# Altium integrated library National Semiconductor LDO.IntLib: 2675 symbols (part 64 of 65)
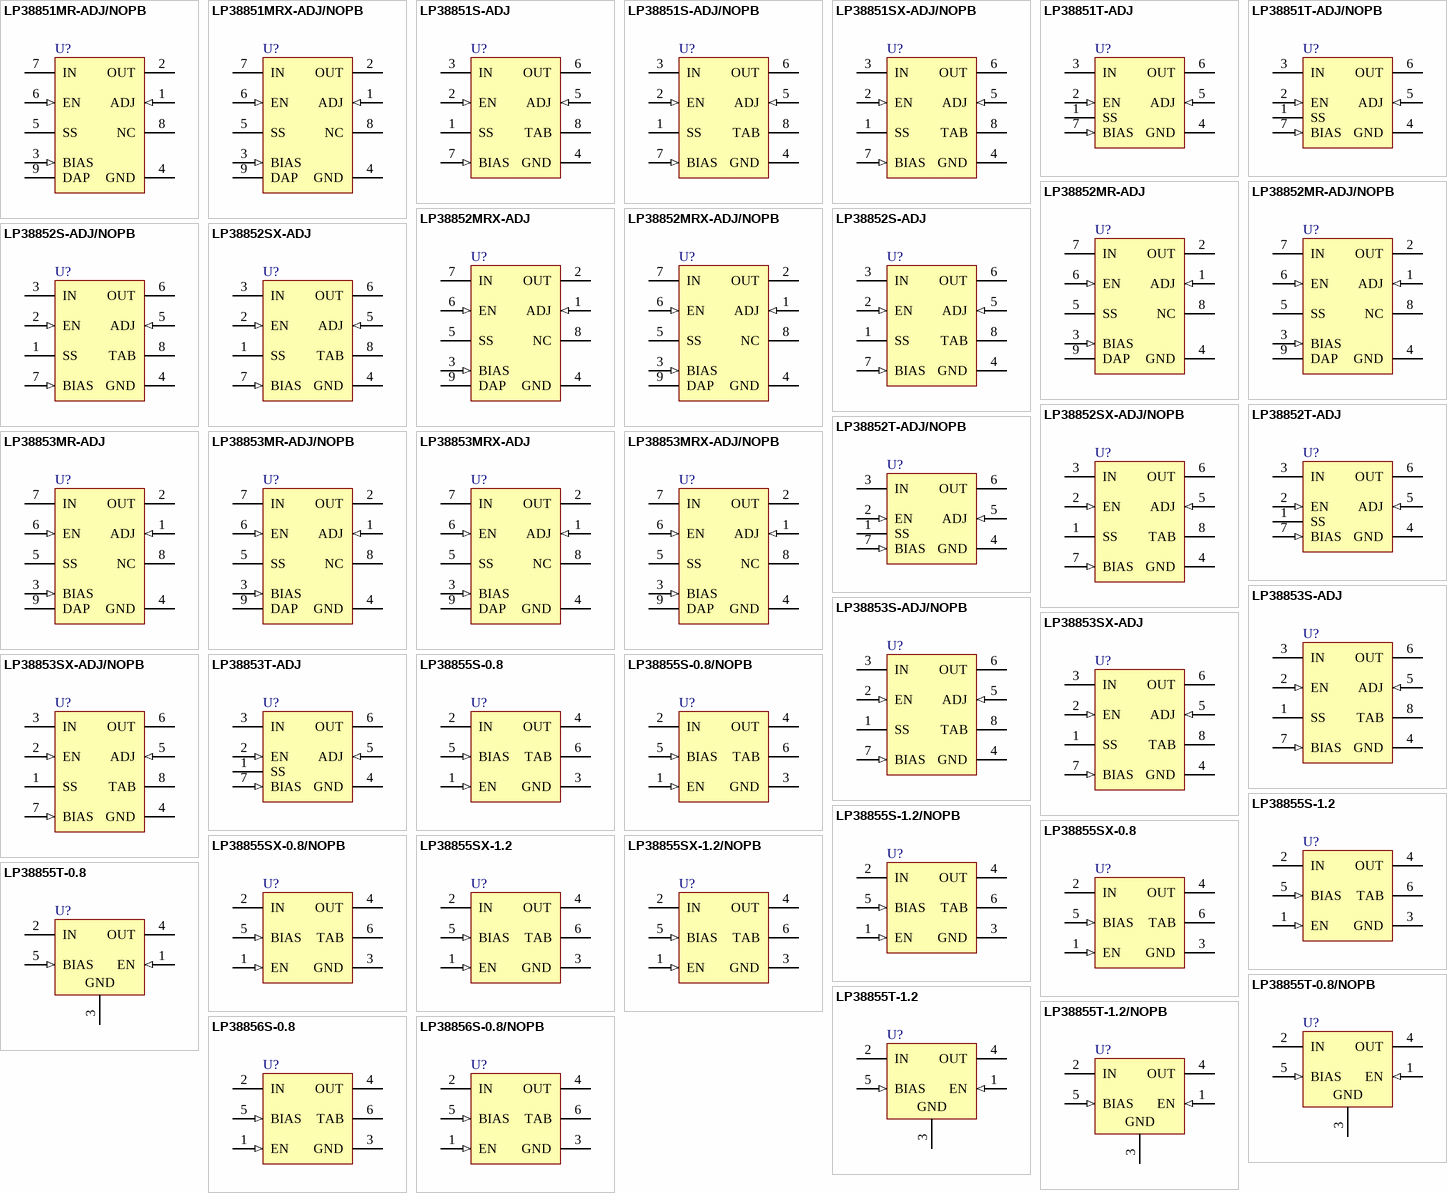
[diagram p130: symbols LP38851MR-ADJ/NOPB to LP38856S-0.8/NOPB]

## LP38855S-0.8/NOPB
designator U?
1.5A Fast-Response High-Accuracy LDO Linear Regulator with Enable, 5-pin TO-263, Pb-Free; PartNumber: LP38855S-0.8/NOPB; Manufacturer: National Semiconductor; PackageTopMarking: NSUZXYTTE#*LP38855S*-0.8; PowerWise: Y; CompType: LDO IC; DatasheetVersion: Dec-2006; PackageVersion: revD, Apr-2005; PackageReference: TS5B; PackageDescription: TO-263, Molded, .400 x .390 x .180in, 5 Lead, .067in Pitch, Surface Mount; RoHS: Y; PinCount: 5; High-Reliability: Y; Code_JEDEC: MO-169-AB; ComponentLink1Description: Manufacturer URL; ComponentLink1URL: http://www.national.com/; ComponentLink2Description: LP38855 Datasheet; ComponentLink2URL: http://www.national.com/ds/LP/LP38855.pdf; ComponentLink3Description: LP38855 Web Page; ComponentLink3URL: http://www.national.com/pf/LP/LP38855.html; ComponentLink4Description: TS5B Package Page; ComponentLink4URL: http://www.national.com/packaging/folders/ts5b.html
footprint TS5B_N (D2-PAK, 6-Leads, Body 8.6x10.2mm, Pitch 1.7mm, Lead Span 14.1mm, IPC Medium Density)
footprint TS5B_L (D2-PAK, 6-Leads, Body 8.6x10.2mm, Pitch 1.7mm, Lead Span 14.1mm, IPC High Density)
footprint TS5B_M (D2-PAK, 6-Leads, Body 8.6x10.2mm, Pitch 1.7mm, Lead Span 14.1mm, IPC Low Density)
pins: 1 EN (in), 2 IN (power), 3 GND (power), 4 OUT (power), 5 BIAS (in), 6 TAB (power)

## LP38855S-1.2
designator U?
1.5A Fast-Response High-Accuracy LDO Linear Regulator with Enable, 5-pin TO-263; PartNumber: LP38855S-1.2; Manufacturer: National Semiconductor; PackageTopMarking: NSUZXYTTE#*LP38855S*-1.2; PowerWise: Y; CompType: LDO IC; DatasheetVersion: Dec-2006; PackageVersion: revD, Apr-2005; PackageReference: TS5B; PackageDescription: TO-263, Molded, .400 x .390 x .180in, 5 Lead, .067in Pitch, Surface Mount; RoHS: N; PinCount: 5; High-Reliability: Y; Code_JEDEC: MO-169-AB; ComponentLink1Description: Manufacturer URL; ComponentLink1URL: http://www.national.com/; ComponentLink2Description: LP38855 Datasheet; ComponentLink2URL: http://www.national.com/ds/LP/LP38855.pdf; ComponentLink3Description: LP38855 Web Page; ComponentLink3URL: http://www.national.com/pf/LP/LP38855.html; ComponentLink4Description: TS5B Package Page; ComponentLink4URL: http://www.national.com/packaging/folders/ts5b.html
footprint TS5B_N (D2-PAK, 6-Leads, Body 8.6x10.2mm, Pitch 1.7mm, Lead Span 14.1mm, IPC Medium Density)
footprint TS5B_L (D2-PAK, 6-Leads, Body 8.6x10.2mm, Pitch 1.7mm, Lead Span 14.1mm, IPC High Density)
footprint TS5B_M (D2-PAK, 6-Leads, Body 8.6x10.2mm, Pitch 1.7mm, Lead Span 14.1mm, IPC Low Density)
pins: 1 EN (in), 2 IN (power), 3 GND (power), 4 OUT (power), 5 BIAS (in), 6 TAB (power)

## LP38855S-1.2/NOPB
designator U?
1.5A Fast-Response High-Accuracy LDO Linear Regulator with Enable, 5-pin TO-263, Pb-Free; PartNumber: LP38855S-1.2/NOPB; Manufacturer: National Semiconductor; PackageTopMarking: NSUZXYTTE#*LP38855S*-1.2; PowerWise: Y; CompType: LDO IC; DatasheetVersion: Dec-2006; PackageVersion: revD, Apr-2005; PackageReference: TS5B; PackageDescription: TO-263, Molded, .400 x .390 x .180in, 5 Lead, .067in Pitch, Surface Mount; RoHS: Y; PinCount: 5; High-Reliability: Y; Code_JEDEC: MO-169-AB; ComponentLink1Description: Manufacturer URL; ComponentLink1URL: http://www.national.com/; ComponentLink2Description: LP38855 Datasheet; ComponentLink2URL: http://www.national.com/ds/LP/LP38855.pdf; ComponentLink3Description: LP38855 Web Page; ComponentLink3URL: http://www.national.com/pf/LP/LP38855.html; ComponentLink4Description: TS5B Package Page; ComponentLink4URL: http://www.national.com/packaging/folders/ts5b.html
footprint TS5B_N (D2-PAK, 6-Leads, Body 8.6x10.2mm, Pitch 1.7mm, Lead Span 14.1mm, IPC Medium Density)
footprint TS5B_L (D2-PAK, 6-Leads, Body 8.6x10.2mm, Pitch 1.7mm, Lead Span 14.1mm, IPC High Density)
footprint TS5B_M (D2-PAK, 6-Leads, Body 8.6x10.2mm, Pitch 1.7mm, Lead Span 14.1mm, IPC Low Density)
pins: 1 EN (in), 2 IN (power), 3 GND (power), 4 OUT (power), 5 BIAS (in), 6 TAB (power)

## LP38855SX-0.8
designator U?
1.5A Fast-Response High-Accuracy LDO Linear Regulator with Enable, 5-pin TO-263; PartNumber: LP38855SX-0.8; Manufacturer: National Semiconductor; PackageTopMarking: NSUZXYTTE#*LP38855S*-0.8; PowerWise: N; CompType: LDO IC; High-Reliability: Y; DatasheetVersion: Dec-2006; PackageVersion: revD, Apr-2005; PackageReference: TS5B; PackageDescription: TO-263, Molded, .400 x .390 x .180in, 5 Lead, .067in Pitch, Surface Mount; RoHS: N; PinCount: 5; Code_JEDEC: MO-169-AB; ComponentLink1Description: Manufacturer URL; ComponentLink1URL: http://www.national.com/; ComponentLink2Description: LP38855 Datasheet; ComponentLink2URL: http://www.national.com/ds/LP/LP38855.pdf; ComponentLink3Description: LP38855 Web Page; ComponentLink3URL: http://www.national.com/pf/LP/LP38855.html; ComponentLink4Description: TS5B Package Page; ComponentLink4URL: http://www.national.com/packaging/folders/ts5b.html
footprint TS5B_N (D2-PAK, 6-Leads, Body 8.6x10.2mm, Pitch 1.7mm, Lead Span 14.1mm, IPC Medium Density)
footprint TS5B_L (D2-PAK, 6-Leads, Body 8.6x10.2mm, Pitch 1.7mm, Lead Span 14.1mm, IPC High Density)
footprint TS5B_M (D2-PAK, 6-Leads, Body 8.6x10.2mm, Pitch 1.7mm, Lead Span 14.1mm, IPC Low Density)
pins: 1 EN (in), 2 IN (power), 3 GND (power), 4 OUT (power), 5 BIAS (in), 6 TAB (power)

## LP38855SX-0.8/NOPB
designator U?
1.5A Fast-Response High-Accuracy LDO Linear Regulator with Enable, 5-pin TO-263, Pb-Free; PartNumber: LP38855SX-0.8/NOPB; Manufacturer: National Semiconductor; PackageTopMarking: NSUZXYTTE#*LP38855S*-0.8; PowerWise: N; CompType: LDO IC; High-Reliability: Y; DatasheetVersion: Dec-2006; PackageVersion: revD, Apr-2005; PackageReference: TS5B; PackageDescription: TO-263, Molded, .400 x .390 x .180in, 5 Lead, .067in Pitch, Surface Mount; RoHS: Y; PinCount: 5; Code_JEDEC: MO-169-AB; ComponentLink1Description: Manufacturer URL; ComponentLink1URL: http://www.national.com/; ComponentLink2Description: LP38855 Datasheet; ComponentLink2URL: http://www.national.com/ds/LP/LP38855.pdf; ComponentLink3Description: LP38855 Web Page; ComponentLink3URL: http://www.national.com/pf/LP/LP38855.html; ComponentLink4Description: TS5B Package Page; ComponentLink4URL: http://www.national.com/packaging/folders/ts5b.html
footprint TS5B_N (D2-PAK, 6-Leads, Body 8.6x10.2mm, Pitch 1.7mm, Lead Span 14.1mm, IPC Medium Density)
footprint TS5B_L (D2-PAK, 6-Leads, Body 8.6x10.2mm, Pitch 1.7mm, Lead Span 14.1mm, IPC High Density)
footprint TS5B_M (D2-PAK, 6-Leads, Body 8.6x10.2mm, Pitch 1.7mm, Lead Span 14.1mm, IPC Low Density)
pins: 1 EN (in), 2 IN (power), 3 GND (power), 4 OUT (power), 5 BIAS (in), 6 TAB (power)

## LP38855SX-1.2
designator U?
1.5A Fast-Response High-Accuracy LDO Linear Regulator with Enable, 5-pin TO-263; PartNumber: LP38855SX-1.2; Manufacturer: National Semiconductor; PackageTopMarking: NSUZXYTTE#*LP38855S*-1.2; PowerWise: Y; CompType: LDO IC; DatasheetVersion: Dec-2006; PackageVersion: revD, Apr-2005; PackageReference: TS5B; PackageDescription: TO-263, Molded, .400 x .390 x .180in, 5 Lead, .067in Pitch, Surface Mount; RoHS: N; PinCount: 5; High-Reliability: Y; Code_JEDEC: MO-169-AB; ComponentLink1Description: Manufacturer URL; ComponentLink1URL: http://www.national.com/; ComponentLink2Description: LP38855 Datasheet; ComponentLink2URL: http://www.national.com/ds/LP/LP38855.pdf; ComponentLink3Description: LP38855 Web Page; ComponentLink3URL: http://www.national.com/pf/LP/LP38855.html; ComponentLink4Description: TS5B Package Page; ComponentLink4URL: http://www.national.com/packaging/folders/ts5b.html
footprint TS5B_N (D2-PAK, 6-Leads, Body 8.6x10.2mm, Pitch 1.7mm, Lead Span 14.1mm, IPC Medium Density)
footprint TS5B_L (D2-PAK, 6-Leads, Body 8.6x10.2mm, Pitch 1.7mm, Lead Span 14.1mm, IPC High Density)
footprint TS5B_M (D2-PAK, 6-Leads, Body 8.6x10.2mm, Pitch 1.7mm, Lead Span 14.1mm, IPC Low Density)
pins: 1 EN (in), 2 IN (power), 3 GND (power), 4 OUT (power), 5 BIAS (in), 6 TAB (power)

## LP38855SX-1.2/NOPB
designator U?
1.5A Fast-Response High-Accuracy LDO Linear Regulator with Enable, 5-pin TO-263, Pb-Free; PartNumber: LP38855SX-1.2/NOPB; Manufacturer: National Semiconductor; PackageTopMarking: NSUZXYTTE#*LP38855S*-1.2; PowerWise: Y; CompType: LDO IC; DatasheetVersion: Dec-2006; PackageVersion: revD, Apr-2005; PackageReference: TS5B; PackageDescription: TO-263, Molded, .400 x .390 x .180in, 5 Lead, .067in Pitch, Surface Mount; RoHS: Y; PinCount: 5; High-Reliability: Y; Code_JEDEC: MO-169-AB; ComponentLink1Description: Manufacturer URL; ComponentLink1URL: http://www.national.com/; ComponentLink2Description: LP38855 Datasheet; ComponentLink2URL: http://www.national.com/ds/LP/LP38855.pdf; ComponentLink3Description: LP38855 Web Page; ComponentLink3URL: http://www.national.com/pf/LP/LP38855.html; ComponentLink4Description: TS5B Package Page; ComponentLink4URL: http://www.national.com/packaging/folders/ts5b.html
footprint TS5B_N (D2-PAK, 6-Leads, Body 8.6x10.2mm, Pitch 1.7mm, Lead Span 14.1mm, IPC Medium Density)
footprint TS5B_L (D2-PAK, 6-Leads, Body 8.6x10.2mm, Pitch 1.7mm, Lead Span 14.1mm, IPC High Density)
footprint TS5B_M (D2-PAK, 6-Leads, Body 8.6x10.2mm, Pitch 1.7mm, Lead Span 14.1mm, IPC Low Density)
pins: 1 EN (in), 2 IN (power), 3 GND (power), 4 OUT (power), 5 BIAS (in), 6 TAB (power)

## LP38855T-0.8
designator U?
1.5A Fast-Response High-Accuracy LDO Linear Regulator with Enable, 5-pin TO-220; PartNumber: LP38855T-0.8; Manufacturer: National Semiconductor; PackageTopMarking: NSUZXYTTE#*LP38855T*-0.8; PowerWise: Y; CompType: LDO IC; DatasheetVersion: Dec-2006; PackageVersion: revA, Oct-1989; PackageReference: T05D; PackageDescription: TO-220, Molded, Stagger Bend, 5 Lead; RoHS: N; PinCount: 5; High-Reliability: Y; ComponentLink1Description: Manufacturer URL; ComponentLink1URL: http://www.national.com/; ComponentLink2Description: LP38855 Datasheet; ComponentLink2URL: http://www.national.com/ds/LP/LP38855.pdf; ComponentLink3Description: LP38855 Web Page; ComponentLink3URL: http://www.national.com/pf/LP/LP38855.html; ComponentLink4Description: T05D Package Page; ComponentLink4URL: http://www.national.com/packaging/folders/t05d.html
footprint T05D (TO, Thru-Hole, Vertical, Heatsink Mounted; 5 Bent Staggered Leads; Body 10.3x8.6x4.6mm, Pitch 1.7 mm)
pins: 1 EN (in), 2 IN (power), 3 GND (power), 4 OUT (power), 5 BIAS (in)

## LP38855T-0.8/NOPB
designator U?
1.5A Fast-Response High-Accuracy LDO Linear Regulator with Enable, 5-pin TO-220, Pb-Free; PartNumber: LP38855T-0.8/NOPB; Manufacturer: National Semiconductor; PackageTopMarking: NSUZXYTTE#*LP38855T*-0.8; PowerWise: Y; CompType: LDO IC; DatasheetVersion: Dec-2006; PackageVersion: revA, Oct-1989; PackageReference: T05D; PackageDescription: TO-220, Molded, Stagger Bend, 5 Lead; RoHS: Y; PinCount: 5; High-Reliability: Y; ComponentLink1Description: Manufacturer URL; ComponentLink1URL: http://www.national.com/; ComponentLink2Description: LP38855 Datasheet; ComponentLink2URL: http://www.national.com/ds/LP/LP38855.pdf; ComponentLink3Description: LP38855 Web Page; ComponentLink3URL: http://www.national.com/pf/LP/LP38855.html; ComponentLink4Description: T05D Package Page; ComponentLink4URL: http://www.national.com/packaging/folders/t05d.html
footprint T05D (TO, Thru-Hole, Vertical, Heatsink Mounted; 5 Bent Staggered Leads; Body 10.3x8.6x4.6mm, Pitch 1.7 mm)
pins: 1 EN (in), 2 IN (power), 3 GND (power), 4 OUT (power), 5 BIAS (in)

## LP38855T-1.2
designator U?
1.5A Fast-Response High-Accuracy LDO Linear Regulator with Enable, 5-pin TO-220; PartNumber: LP38855T-1.2; Manufacturer: National Semiconductor; PackageTopMarking: NSUZXYTTE#*LP38855T*-1.2; PowerWise: Y; CompType: LDO IC; DatasheetVersion: Dec-2006; PackageVersion: revA, Oct-1989; PackageReference: T05D; PackageDescription: TO-220, Molded, Stagger Bend, 5 Lead; RoHS: N; PinCount: 5; High-Reliability: Y; ComponentLink1Description: Manufacturer URL; ComponentLink1URL: http://www.national.com/; ComponentLink2Description: LP38855 Datasheet; ComponentLink2URL: http://www.national.com/ds/LP/LP38855.pdf; ComponentLink3Description: LP38855 Web Page; ComponentLink3URL: http://www.national.com/pf/LP/LP38855.html; ComponentLink4Description: T05D Package Page; ComponentLink4URL: http://www.national.com/packaging/folders/t05d.html
footprint T05D (TO, Thru-Hole, Vertical, Heatsink Mounted; 5 Bent Staggered Leads; Body 10.3x8.6x4.6mm, Pitch 1.7 mm)
pins: 1 EN (in), 2 IN (power), 3 GND (power), 4 OUT (power), 5 BIAS (in)

## LP38855T-1.2/NOPB
designator U?
1.5A Fast-Response High-Accuracy LDO Linear Regulator with Enable, 5-pin TO-220, Pb-Free; PartNumber: LP38855T-1.2/NOPB; Manufacturer: National Semiconductor; PackageTopMarking: NSUZXYTTE#*LP38855T*-1.2; PowerWise: Y; CompType: LDO IC; DatasheetVersion: Dec-2006; PackageVersion: revA, Oct-1989; PackageReference: T05D; PackageDescription: TO-220, Molded, Stagger Bend, 5 Lead; RoHS: Y; PinCount: 5; High-Reliability: Y; ComponentLink1Description: Manufacturer URL; ComponentLink1URL: http://www.national.com/; ComponentLink2Description: LP38855 Datasheet; ComponentLink2URL: http://www.national.com/ds/LP/LP38855.pdf; ComponentLink3Description: LP38855 Web Page; ComponentLink3URL: http://www.national.com/pf/LP/LP38855.html; ComponentLink4Description: T05D Package Page; ComponentLink4URL: http://www.national.com/packaging/folders/t05d.html
footprint T05D (TO, Thru-Hole, Vertical, Heatsink Mounted; 5 Bent Staggered Leads; Body 10.3x8.6x4.6mm, Pitch 1.7 mm)
pins: 1 EN (in), 2 IN (power), 3 GND (power), 4 OUT (power), 5 BIAS (in)

## LP38856S-0.8
designator U?
3A Fast-Response High-Accuracy LDO Linear Regulator with Enable, 5-pin TO-263; PartNumber: LP38856S-0.8; Manufacturer: National Semiconductor; PackageTopMarking: NSUZXYTTE#*LP38856S*0.8; PowerWise: Y; CompType: LDO IC; DatasheetVersion: Dec-2006; PackageVersion: revD, Apr-2005; PackageReference: TS5B; PackageDescription: TO-263, Molded, .400 x .390 x .180in, 5 Lead, .067in Pitch, Surface Mount; RoHS: N; PinCount: 5; High-Reliability: Y; Code_JEDEC: MO-169-AB; ComponentLink1Description: Manufacturer URL; ComponentLink1URL: http://www.national.com/; ComponentLink2Description: LP38856 Datasheet; ComponentLink2URL: http://www.national.com/ds/LP/LP38856.pdf; ComponentLink3Description: LP38856 Web Page; ComponentLink3URL: http://www.national.com/pf/LP/LP38856.html; ComponentLink4Description: TS5B Package Page; ComponentLink4URL: http://www.national.com/packaging/folders/ts5b.html
footprint TS5B_N (D2-PAK, 6-Leads, Body 8.6x10.2mm, Pitch 1.7mm, Lead Span 14.1mm, IPC Medium Density)
footprint TS5B_L (D2-PAK, 6-Leads, Body 8.6x10.2mm, Pitch 1.7mm, Lead Span 14.1mm, IPC High Density)
footprint TS5B_M (D2-PAK, 6-Leads, Body 8.6x10.2mm, Pitch 1.7mm, Lead Span 14.1mm, IPC Low Density)
pins: 1 EN (in), 2 IN (power), 3 GND (power), 4 OUT (power), 5 BIAS (in), 6 TAB (power)

## LP38856S-0.8/NOPB
designator U?
3A Fast-Response High-Accuracy LDO Linear Regulator with Enable, 5-pin TO-263, Pb-Free; PartNumber: LP38856S-0.8/NOPB; Manufacturer: National Semiconductor; PackageTopMarking: NSUZXYTTE#*LP38856S*0.8; PowerWise: Y; CompType: LDO IC; DatasheetVersion: Dec-2006; PackageVersion: revD, Apr-2005; PackageReference: TS5B; PackageDescription: TO-263, Molded, .400 x .390 x .180in, 5 Lead, .067in Pitch, Surface Mount; RoHS: Y; PinCount: 5; High-Reliability: Y; Code_JEDEC: MO-169-AB; ComponentLink1Description: Manufacturer URL; ComponentLink1URL: http://www.national.com/; ComponentLink2Description: LP38856 Datasheet; ComponentLink2URL: http://www.national.com/ds/LP/LP38856.pdf; ComponentLink3Description: LP38856 Web Page; ComponentLink3URL: http://www.national.com/pf/LP/LP38856.html; ComponentLink4Description: TS5B Package Page; ComponentLink4URL: http://www.national.com/packaging/folders/ts5b.html
footprint TS5B_N (D2-PAK, 6-Leads, Body 8.6x10.2mm, Pitch 1.7mm, Lead Span 14.1mm, IPC Medium Density)
footprint TS5B_L (D2-PAK, 6-Leads, Body 8.6x10.2mm, Pitch 1.7mm, Lead Span 14.1mm, IPC High Density)
footprint TS5B_M (D2-PAK, 6-Leads, Body 8.6x10.2mm, Pitch 1.7mm, Lead Span 14.1mm, IPC Low Density)
pins: 1 EN (in), 2 IN (power), 3 GND (power), 4 OUT (power), 5 BIAS (in), 6 TAB (power)

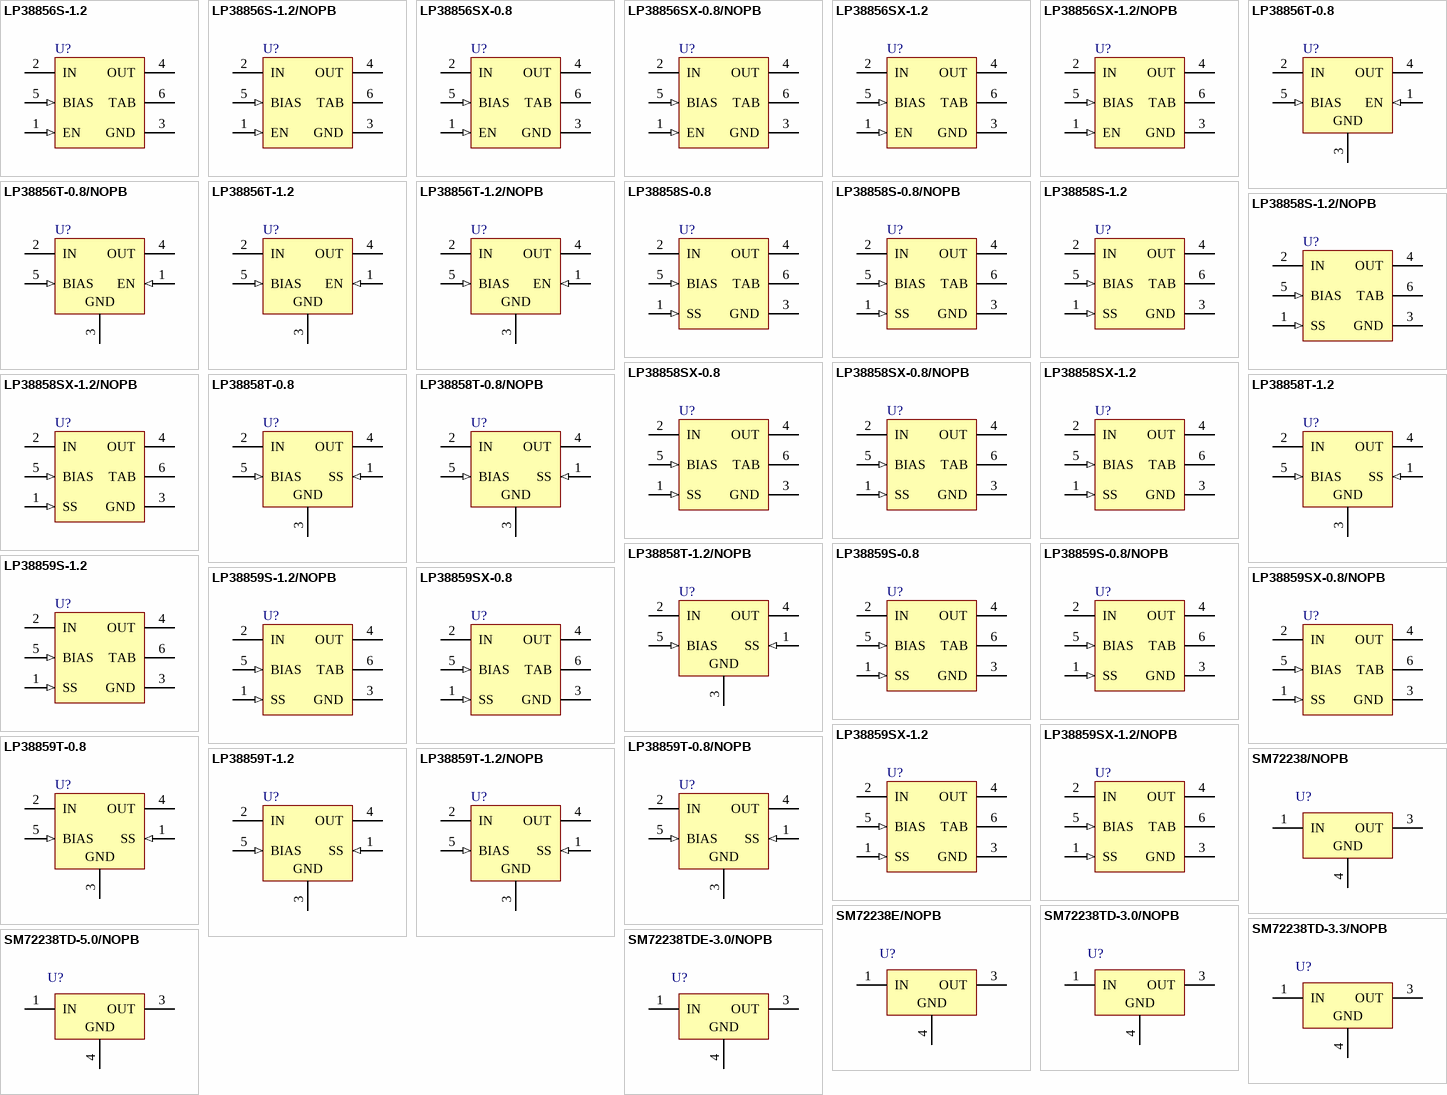
[diagram p66: symbols LP38856S-1.2 to SM72238TDE-3.0/NOPB]

## LP38856S-1.2
designator U?
3A Fast-Response High-Accuracy LDO Linear Regulator with Enable, 5-pin TO-263; PartNumber: LP38856S-1.2; Manufacturer: National Semiconductor; PackageTopMarking: NSUZXYTTE#*LP38856S*1.2; PowerWise: Y; CompType: LDO IC; DatasheetVersion: Dec-2006; PackageVersion: revD, Apr-2005; PackageReference: TS5B; PackageDescription: TO-263, Molded, .400 x .390 x .180in, 5 Lead, .067in Pitch, Surface Mount; RoHS: N; PinCount: 5; High-Reliability: Y; Code_JEDEC: MO-169-AB; ComponentLink1Description: Manufacturer URL; ComponentLink1URL: http://www.national.com/; ComponentLink2Description: LP38856 Datasheet; ComponentLink2URL: http://www.national.com/ds/LP/LP38856.pdf; ComponentLink3Description: LP38856 Web Page; ComponentLink3URL: http://www.national.com/pf/LP/LP38856.html; ComponentLink4Description: TS5B Package Page; ComponentLink4URL: http://www.national.com/packaging/folders/ts5b.html
footprint TS5B_N (D2-PAK, 6-Leads, Body 8.6x10.2mm, Pitch 1.7mm, Lead Span 14.1mm, IPC Medium Density)
footprint TS5B_L (D2-PAK, 6-Leads, Body 8.6x10.2mm, Pitch 1.7mm, Lead Span 14.1mm, IPC High Density)
footprint TS5B_M (D2-PAK, 6-Leads, Body 8.6x10.2mm, Pitch 1.7mm, Lead Span 14.1mm, IPC Low Density)
pins: 1 EN (in), 2 IN (power), 3 GND (power), 4 OUT (power), 5 BIAS (in), 6 TAB (power)

## LP38856S-1.2/NOPB
designator U?
3A Fast-Response High-Accuracy LDO Linear Regulator with Enable, 5-pin TO-263, Pb-Free; PartNumber: LP38856S-1.2/NOPB; Manufacturer: National Semiconductor; PackageTopMarking: NSUZXYTTE#*LP38856S*1.2; PowerWise: Y; CompType: LDO IC; DatasheetVersion: Dec-2006; PackageVersion: revD, Apr-2005; PackageReference: TS5B; PackageDescription: TO-263, Molded, .400 x .390 x .180in, 5 Lead, .067in Pitch, Surface Mount; RoHS: Y; PinCount: 5; High-Reliability: Y; Code_JEDEC: MO-169-AB; ComponentLink1Description: Manufacturer URL; ComponentLink1URL: http://www.national.com/; ComponentLink2Description: LP38856 Datasheet; ComponentLink2URL: http://www.national.com/ds/LP/LP38856.pdf; ComponentLink3Description: LP38856 Web Page; ComponentLink3URL: http://www.national.com/pf/LP/LP38856.html; ComponentLink4Description: TS5B Package Page; ComponentLink4URL: http://www.national.com/packaging/folders/ts5b.html
footprint TS5B_N (D2-PAK, 6-Leads, Body 8.6x10.2mm, Pitch 1.7mm, Lead Span 14.1mm, IPC Medium Density)
footprint TS5B_L (D2-PAK, 6-Leads, Body 8.6x10.2mm, Pitch 1.7mm, Lead Span 14.1mm, IPC High Density)
footprint TS5B_M (D2-PAK, 6-Leads, Body 8.6x10.2mm, Pitch 1.7mm, Lead Span 14.1mm, IPC Low Density)
pins: 1 EN (in), 2 IN (power), 3 GND (power), 4 OUT (power), 5 BIAS (in), 6 TAB (power)

## LP38856SX-0.8
designator U?
3A Fast-Response High-Accuracy LDO Linear Regulator with Enable, 5-pin TO-263; PartNumber: LP38856SX-0.8; Manufacturer: National Semiconductor; PackageTopMarking: NSUZXYTTE#*LP38856S*0.8; PowerWise: Y; CompType: LDO IC; DatasheetVersion: Dec-2006; PackageVersion: revD, Apr-2005; PackageReference: TS5B; PackageDescription: TO-263, Molded, .400 x .390 x .180in, 5 Lead, .067in Pitch, Surface Mount; RoHS: N; PinCount: 5; High-Reliability: Y; Code_JEDEC: MO-169-AB; ComponentLink1Description: Manufacturer URL; ComponentLink1URL: http://www.national.com/; ComponentLink2Description: LP38856 Datasheet; ComponentLink2URL: http://www.national.com/ds/LP/LP38856.pdf; ComponentLink3Description: LP38856 Web Page; ComponentLink3URL: http://www.national.com/pf/LP/LP38856.html; ComponentLink4Description: TS5B Package Page; ComponentLink4URL: http://www.national.com/packaging/folders/ts5b.html
footprint TS5B_N (D2-PAK, 6-Leads, Body 8.6x10.2mm, Pitch 1.7mm, Lead Span 14.1mm, IPC Medium Density)
footprint TS5B_L (D2-PAK, 6-Leads, Body 8.6x10.2mm, Pitch 1.7mm, Lead Span 14.1mm, IPC High Density)
footprint TS5B_M (D2-PAK, 6-Leads, Body 8.6x10.2mm, Pitch 1.7mm, Lead Span 14.1mm, IPC Low Density)
pins: 1 EN (in), 2 IN (power), 3 GND (power), 4 OUT (power), 5 BIAS (in), 6 TAB (power)

## LP38856SX-0.8/NOPB
designator U?
3A Fast-Response High-Accuracy LDO Linear Regulator with Enable, 5-pin TO-263, Pb-Free; PartNumber: LP38856SX-0.8/NOPB; Manufacturer: National Semiconductor; PackageTopMarking: NSUZXYTTE#*LP38856S*0.8; PowerWise: Y; CompType: LDO IC; DatasheetVersion: Dec-2006; PackageVersion: revD, Apr-2005; PackageReference: TS5B; PackageDescription: TO-263, Molded, .400 x .390 x .180in, 5 Lead, .067in Pitch, Surface Mount; RoHS: Y; PinCount: 5; High-Reliability: Y; Code_JEDEC: MO-169-AB; ComponentLink1Description: Manufacturer URL; ComponentLink1URL: http://www.national.com/; ComponentLink2Description: LP38856 Datasheet; ComponentLink2URL: http://www.national.com/ds/LP/LP38856.pdf; ComponentLink3Description: LP38856 Web Page; ComponentLink3URL: http://www.national.com/pf/LP/LP38856.html; ComponentLink4Description: TS5B Package Page; ComponentLink4URL: http://www.national.com/packaging/folders/ts5b.html
footprint TS5B_N (D2-PAK, 6-Leads, Body 8.6x10.2mm, Pitch 1.7mm, Lead Span 14.1mm, IPC Medium Density)
footprint TS5B_L (D2-PAK, 6-Leads, Body 8.6x10.2mm, Pitch 1.7mm, Lead Span 14.1mm, IPC High Density)
footprint TS5B_M (D2-PAK, 6-Leads, Body 8.6x10.2mm, Pitch 1.7mm, Lead Span 14.1mm, IPC Low Density)
pins: 1 EN (in), 2 IN (power), 3 GND (power), 4 OUT (power), 5 BIAS (in), 6 TAB (power)

## LP38856SX-1.2
designator U?
3A Fast-Response High-Accuracy LDO Linear Regulator with Enable, 5-pin TO-263; PartNumber: LP38856SX-1.2; Manufacturer: National Semiconductor; PackageTopMarking: NSUZXYTTE#*LP38856S*1.2; PowerWise: Y; CompType: LDO IC; DatasheetVersion: Dec-2006; PackageVersion: revD, Apr-2005; PackageReference: TS5B; PackageDescription: TO-263, Molded, .400 x .390 x .180in, 5 Lead, .067in Pitch, Surface Mount; RoHS: N; PinCount: 5; High-Reliability: Y; Code_JEDEC: MO-169-AB; ComponentLink1Description: Manufacturer URL; ComponentLink1URL: http://www.national.com/; ComponentLink2Description: LP38856 Datasheet; ComponentLink2URL: http://www.national.com/ds/LP/LP38856.pdf; ComponentLink3Description: LP38856 Web Page; ComponentLink3URL: http://www.national.com/pf/LP/LP38856.html; ComponentLink4Description: TS5B Package Page; ComponentLink4URL: http://www.national.com/packaging/folders/ts5b.html
footprint TS5B_N (D2-PAK, 6-Leads, Body 8.6x10.2mm, Pitch 1.7mm, Lead Span 14.1mm, IPC Medium Density)
footprint TS5B_L (D2-PAK, 6-Leads, Body 8.6x10.2mm, Pitch 1.7mm, Lead Span 14.1mm, IPC High Density)
footprint TS5B_M (D2-PAK, 6-Leads, Body 8.6x10.2mm, Pitch 1.7mm, Lead Span 14.1mm, IPC Low Density)
pins: 1 EN (in), 2 IN (power), 3 GND (power), 4 OUT (power), 5 BIAS (in), 6 TAB (power)

## LP38856SX-1.2/NOPB
designator U?
3A Fast-Response High-Accuracy LDO Linear Regulator with Enable, 5-pin TO-263, Pb-Free; PartNumber: LP38856SX-1.2/NOPB; Manufacturer: National Semiconductor; PackageTopMarking: NSUZXYTTE#*LP38856S*1.2; PowerWise: Y; CompType: LDO IC; DatasheetVersion: Dec-2006; PackageVersion: revD, Apr-2005; PackageReference: TS5B; PackageDescription: TO-263, Molded, .400 x .390 x .180in, 5 Lead, .067in Pitch, Surface Mount; RoHS: Y; PinCount: 5; High-Reliability: Y; Code_JEDEC: MO-169-AB; ComponentLink1Description: Manufacturer URL; ComponentLink1URL: http://www.national.com/; ComponentLink2Description: LP38856 Datasheet; ComponentLink2URL: http://www.national.com/ds/LP/LP38856.pdf; ComponentLink3Description: LP38856 Web Page; ComponentLink3URL: http://www.national.com/pf/LP/LP38856.html; ComponentLink4Description: TS5B Package Page; ComponentLink4URL: http://www.national.com/packaging/folders/ts5b.html
footprint TS5B_N (D2-PAK, 6-Leads, Body 8.6x10.2mm, Pitch 1.7mm, Lead Span 14.1mm, IPC Medium Density)
footprint TS5B_L (D2-PAK, 6-Leads, Body 8.6x10.2mm, Pitch 1.7mm, Lead Span 14.1mm, IPC High Density)
footprint TS5B_M (D2-PAK, 6-Leads, Body 8.6x10.2mm, Pitch 1.7mm, Lead Span 14.1mm, IPC Low Density)
pins: 1 EN (in), 2 IN (power), 3 GND (power), 4 OUT (power), 5 BIAS (in), 6 TAB (power)

## LP38856T-0.8
designator U?
3A Fast-Response High-Accuracy LDO Linear Regulator with Enable, 5-pin TO-220; PartNumber: LP38856T-0.8; Manufacturer: National Semiconductor; PackageTopMarking: NSUZXYTTE#*LP38856T*0.8; PowerWise: Y; CompType: LDO IC; DatasheetVersion: Dec-2006; PackageVersion: revA, Oct-1989; PackageReference: T05D; PackageDescription: TO-220, Molded, Stagger Bend, 5 Lead; RoHS: N; PinCount: 5; High-Reliability: Y; ComponentLink1Description: Manufacturer URL; ComponentLink1URL: http://www.national.com/; ComponentLink2Description: LP38856 Datasheet; ComponentLink2URL: http://www.national.com/ds/LP/LP38856.pdf; ComponentLink3Description: LP38856 Web Page; ComponentLink3URL: http://www.national.com/pf/LP/LP38856.html; ComponentLink4Description: T05D Package Page; ComponentLink4URL: http://www.national.com/packaging/folders/t05d.html
footprint T05D (TO, Thru-Hole, Vertical, Heatsink Mounted; 5 Bent Staggered Leads; Body 10.3x8.6x4.6mm, Pitch 1.7 mm)
pins: 1 EN (in), 2 IN (power), 3 GND (power), 4 OUT (power), 5 BIAS (in)

## LP38856T-0.8/NOPB
designator U?
3A Fast-Response High-Accuracy LDO Linear Regulator with Enable, 5-pin TO-220, Pb-Free; PartNumber: LP38856T-0.8/NOPB; Manufacturer: National Semiconductor; PackageTopMarking: NSUZXYTTE#*LP38856T*0.8; PowerWise: Y; CompType: LDO IC; DatasheetVersion: Dec-2006; PackageVersion: revA, Oct-1989; PackageReference: T05D; PackageDescription: TO-220, Molded, Stagger Bend, 5 Lead; RoHS: Y; PinCount: 5; High-Reliability: Y; ComponentLink1Description: Manufacturer URL; ComponentLink1URL: http://www.national.com/; ComponentLink2Description: LP38856 Datasheet; ComponentLink2URL: http://www.national.com/ds/LP/LP38856.pdf; ComponentLink3Description: LP38856 Web Page; ComponentLink3URL: http://www.national.com/pf/LP/LP38856.html; ComponentLink4Description: T05D Package Page; ComponentLink4URL: http://www.national.com/packaging/folders/t05d.html
footprint T05D (TO, Thru-Hole, Vertical, Heatsink Mounted; 5 Bent Staggered Leads; Body 10.3x8.6x4.6mm, Pitch 1.7 mm)
pins: 1 EN (in), 2 IN (power), 3 GND (power), 4 OUT (power), 5 BIAS (in)

## LP38856T-1.2
designator U?
3A Fast-Response High-Accuracy LDO Linear Regulator with Enable, 5-pin TO-220; PartNumber: LP38856T-1.2; Manufacturer: National Semiconductor; PackageTopMarking: NSUZXYTTE#*LP38856T*1.2; PowerWise: Y; CompType: LDO IC; DatasheetVersion: Dec-2006; PackageVersion: revA, Oct-1989; PackageReference: T05D; PackageDescription: TO-220, Molded, Stagger Bend, 5 Lead; RoHS: N; PinCount: 5; High-Reliability: Y; ComponentLink1Description: Manufacturer URL; ComponentLink1URL: http://www.national.com/; ComponentLink2Description: LP38856 Datasheet; ComponentLink2URL: http://www.national.com/ds/LP/LP38856.pdf; ComponentLink3Description: LP38856 Web Page; ComponentLink3URL: http://www.national.com/pf/LP/LP38856.html; ComponentLink4Description: T05D Package Page; ComponentLink4URL: http://www.national.com/packaging/folders/t05d.html
footprint T05D (TO, Thru-Hole, Vertical, Heatsink Mounted; 5 Bent Staggered Leads; Body 10.3x8.6x4.6mm, Pitch 1.7 mm)
pins: 1 EN (in), 2 IN (power), 3 GND (power), 4 OUT (power), 5 BIAS (in)

## LP38856T-1.2/NOPB
designator U?
3A Fast-Response High-Accuracy LDO Linear Regulator with Enable, 5-pin TO-220, Pb-Free; PartNumber: LP38856T-1.2/NOPB; Manufacturer: National Semiconductor; PackageTopMarking: NSUZXYTTE#*LP38856T*1.2; PowerWise: Y; CompType: LDO IC; DatasheetVersion: Dec-2006; PackageVersion: revA, Oct-1989; PackageReference: T05D; PackageDescription: TO-220, Molded, Stagger Bend, 5 Lead; RoHS: Y; PinCount: 5; High-Reliability: Y; ComponentLink1Description: Manufacturer URL; ComponentLink1URL: http://www.national.com/; ComponentLink2Description: LP38856 Datasheet; ComponentLink2URL: http://www.national.com/ds/LP/LP38856.pdf; ComponentLink3Description: LP38856 Web Page; ComponentLink3URL: http://www.national.com/pf/LP/LP38856.html; ComponentLink4Description: T05D Package Page; ComponentLink4URL: http://www.national.com/packaging/folders/t05d.html
footprint T05D (TO, Thru-Hole, Vertical, Heatsink Mounted; 5 Bent Staggered Leads; Body 10.3x8.6x4.6mm, Pitch 1.7 mm)
pins: 1 EN (in), 2 IN (power), 3 GND (power), 4 OUT (power), 5 BIAS (in)

## LP38858S-0.8
designator U?
1.5A Fast-Response High-Accuracy LDO Linear Regulator with Soft-Start, 5-pin TO-263; PartNumber: LP38858S-0.8; Manufacturer: National Semiconductor; PackageTopMarking: NSUZXYTTE#*LP38858S*-0.8; PowerWise: Y; CompType: LDO IC; DatasheetVersion: Nov-2006; PackageVersion: revD, Apr-2005; PackageReference: TS5B; PackageDescription: TO-263, Molded, .400 x .390 x .180in, 5 Lead, .067in Pitch, Surface Mount; RoHS: N; PinCount: 5; High-Reliability: Y; Code_JEDEC: MO-169-AB; ComponentLink1Description: Manufacturer URL; ComponentLink1URL: http://www.national.com/; ComponentLink2Description: LP38858 Datasheet; ComponentLink2URL: http://www.national.com/ds/LP/LP38858.pdf; ComponentLink3Description: LP38858 Web Page; ComponentLink3URL: http://www.national.com/pf/LP/LP38858.html; ComponentLink4Description: TS5B Package Page; ComponentLink4URL: http://www.national.com/packaging/folders/ts5b.html
footprint TS5B_N (D2-PAK, 6-Leads, Body 8.6x10.2mm, Pitch 1.7mm, Lead Span 14.1mm, IPC Medium Density)
footprint TS5B_L (D2-PAK, 6-Leads, Body 8.6x10.2mm, Pitch 1.7mm, Lead Span 14.1mm, IPC High Density)
footprint TS5B_M (D2-PAK, 6-Leads, Body 8.6x10.2mm, Pitch 1.7mm, Lead Span 14.1mm, IPC Low Density)
pins: 1 SS (in), 2 IN (power), 3 GND (power), 4 OUT (power), 5 BIAS (in), 6 TAB (power)

## LP38858S-0.8/NOPB
designator U?
1.5A Fast-Response High-Accuracy LDO Linear Regulator with Soft-Start, 5-pin TO-263, Pb-Free; PartNumber: LP38858S-0.8/NOPB; Manufacturer: National Semiconductor; PackageTopMarking: NSUZXYTTE#*LP38858S*-0.8; PowerWise: Y; CompType: LDO IC; DatasheetVersion: Nov-2006; PackageVersion: revD, Apr-2005; PackageReference: TS5B; PackageDescription: TO-263, Molded, .400 x .390 x .180in, 5 Lead, .067in Pitch, Surface Mount; RoHS: Y; PinCount: 5; High-Reliability: Y; Code_JEDEC: MO-169-AB; ComponentLink1Description: Manufacturer URL; ComponentLink1URL: http://www.national.com/; ComponentLink2Description: LP38858 Datasheet; ComponentLink2URL: http://www.national.com/ds/LP/LP38858.pdf; ComponentLink3Description: LP38858 Web Page; ComponentLink3URL: http://www.national.com/pf/LP/LP38858.html; ComponentLink4Description: TS5B Package Page; ComponentLink4URL: http://www.national.com/packaging/folders/ts5b.html
footprint TS5B_N (D2-PAK, 6-Leads, Body 8.6x10.2mm, Pitch 1.7mm, Lead Span 14.1mm, IPC Medium Density)
footprint TS5B_L (D2-PAK, 6-Leads, Body 8.6x10.2mm, Pitch 1.7mm, Lead Span 14.1mm, IPC High Density)
footprint TS5B_M (D2-PAK, 6-Leads, Body 8.6x10.2mm, Pitch 1.7mm, Lead Span 14.1mm, IPC Low Density)
pins: 1 SS (in), 2 IN (power), 3 GND (power), 4 OUT (power), 5 BIAS (in), 6 TAB (power)

## LP38858S-1.2
designator U?
1.5A Fast-Response High-Accuracy LDO Linear Regulator with Soft-Start, 5-pin TO-263; PartNumber: LP38858S-1.2; Manufacturer: National Semiconductor; PackageTopMarking: NSUZXYTTE#*LP38858S*-1.2; PowerWise: Y; CompType: LDO IC; DatasheetVersion: Nov-2006; PackageVersion: revD, Apr-2005; PackageReference: TS5B; PackageDescription: TO-263, Molded, .400 x .390 x .180in, 5 Lead, .067in Pitch, Surface Mount; RoHS: N; PinCount: 5; High-Reliability: Y; Code_JEDEC: MO-169-AB; ComponentLink1Description: Manufacturer URL; ComponentLink1URL: http://www.national.com/; ComponentLink2Description: LP38858 Datasheet; ComponentLink2URL: http://www.national.com/ds/LP/LP38858.pdf; ComponentLink3Description: LP38858 Web Page; ComponentLink3URL: http://www.national.com/pf/LP/LP38858.html; ComponentLink4Description: TS5B Package Page; ComponentLink4URL: http://www.national.com/packaging/folders/ts5b.html
footprint TS5B_N (D2-PAK, 6-Leads, Body 8.6x10.2mm, Pitch 1.7mm, Lead Span 14.1mm, IPC Medium Density)
footprint TS5B_L (D2-PAK, 6-Leads, Body 8.6x10.2mm, Pitch 1.7mm, Lead Span 14.1mm, IPC High Density)
footprint TS5B_M (D2-PAK, 6-Leads, Body 8.6x10.2mm, Pitch 1.7mm, Lead Span 14.1mm, IPC Low Density)
pins: 1 SS (in), 2 IN (power), 3 GND (power), 4 OUT (power), 5 BIAS (in), 6 TAB (power)

## LP38858S-1.2/NOPB
designator U?
1.5A Fast-Response High-Accuracy LDO Linear Regulator with Soft-Start, 5-pin TO-263, Pb-Free; PartNumber: LP38858S-1.2/NOPB; Manufacturer: National Semiconductor; PackageTopMarking: NSUZXYTTE#*LP38858S*-1.2; PowerWise: Y; CompType: LDO IC; DatasheetVersion: Nov-2006; PackageVersion: revD, Apr-2005; PackageReference: TS5B; PackageDescription: TO-263, Molded, .400 x .390 x .180in, 5 Lead, .067in Pitch, Surface Mount; RoHS: Y; PinCount: 5; High-Reliability: Y; Code_JEDEC: MO-169-AB; ComponentLink1Description: Manufacturer URL; ComponentLink1URL: http://www.national.com/; ComponentLink2Description: LP38858 Datasheet; ComponentLink2URL: http://www.national.com/ds/LP/LP38858.pdf; ComponentLink3Description: LP38858 Web Page; ComponentLink3URL: http://www.national.com/pf/LP/LP38858.html; ComponentLink4Description: TS5B Package Page; ComponentLink4URL: http://www.national.com/packaging/folders/ts5b.html
footprint TS5B_N (D2-PAK, 6-Leads, Body 8.6x10.2mm, Pitch 1.7mm, Lead Span 14.1mm, IPC Medium Density)
footprint TS5B_L (D2-PAK, 6-Leads, Body 8.6x10.2mm, Pitch 1.7mm, Lead Span 14.1mm, IPC High Density)
footprint TS5B_M (D2-PAK, 6-Leads, Body 8.6x10.2mm, Pitch 1.7mm, Lead Span 14.1mm, IPC Low Density)
pins: 1 SS (in), 2 IN (power), 3 GND (power), 4 OUT (power), 5 BIAS (in), 6 TAB (power)

## LP38858SX-0.8
designator U?
1.5A Fast-Response High-Accuracy LDO Linear Regulator with Soft-Start, 5-pin TO-263; PartNumber: LP38858SX-0.8; Manufacturer: National Semiconductor; PackageTopMarking: NSUZXYTTE#*LP38858S*-0.8; PowerWise: Y; CompType: LDO IC; DatasheetVersion: Nov-2006; PackageVersion: revD, Apr-2005; PackageReference: TS5B; PackageDescription: TO-263, Molded, .400 x .390 x .180in, 5 Lead, .067in Pitch, Surface Mount; RoHS: N; PinCount: 5; High-Reliability: Y; Code_JEDEC: MO-169-AB; ComponentLink1Description: Manufacturer URL; ComponentLink1URL: http://www.national.com/; ComponentLink2Description: LP38858 Datasheet; ComponentLink2URL: http://www.national.com/ds/LP/LP38858.pdf; ComponentLink3Description: LP38858 Web Page; ComponentLink3URL: http://www.national.com/pf/LP/LP38858.html; ComponentLink4Description: TS5B Package Page; ComponentLink4URL: http://www.national.com/packaging/folders/ts5b.html
footprint TS5B_N (D2-PAK, 6-Leads, Body 8.6x10.2mm, Pitch 1.7mm, Lead Span 14.1mm, IPC Medium Density)
footprint TS5B_L (D2-PAK, 6-Leads, Body 8.6x10.2mm, Pitch 1.7mm, Lead Span 14.1mm, IPC High Density)
footprint TS5B_M (D2-PAK, 6-Leads, Body 8.6x10.2mm, Pitch 1.7mm, Lead Span 14.1mm, IPC Low Density)
pins: 1 SS (in), 2 IN (power), 3 GND (power), 4 OUT (power), 5 BIAS (in), 6 TAB (power)

## LP38858SX-0.8/NOPB
designator U?
1.5A Fast-Response High-Accuracy LDO Linear Regulator with Soft-Start, 5-pin TO-263, Pb-Free; PartNumber: LP38858SX-0.8/NOPB; Manufacturer: National Semiconductor; PackageTopMarking: NSUZXYTTE#*LP38858S*-0.8; PowerWise: Y; CompType: LDO IC; DatasheetVersion: Nov-2006; PackageVersion: revD, Apr-2005; PackageReference: TS5B; PackageDescription: TO-263, Molded, .400 x .390 x .180in, 5 Lead, .067in Pitch, Surface Mount; RoHS: Y; PinCount: 5; High-Reliability: Y; Code_JEDEC: MO-169-AB; ComponentLink1Description: Manufacturer URL; ComponentLink1URL: http://www.national.com/; ComponentLink2Description: LP38858 Datasheet; ComponentLink2URL: http://www.national.com/ds/LP/LP38858.pdf; ComponentLink3Description: LP38858 Web Page; ComponentLink3URL: http://www.national.com/pf/LP/LP38858.html; ComponentLink4Description: TS5B Package Page; ComponentLink4URL: http://www.national.com/packaging/folders/ts5b.html
footprint TS5B_N (D2-PAK, 6-Leads, Body 8.6x10.2mm, Pitch 1.7mm, Lead Span 14.1mm, IPC Medium Density)
footprint TS5B_L (D2-PAK, 6-Leads, Body 8.6x10.2mm, Pitch 1.7mm, Lead Span 14.1mm, IPC High Density)
footprint TS5B_M (D2-PAK, 6-Leads, Body 8.6x10.2mm, Pitch 1.7mm, Lead Span 14.1mm, IPC Low Density)
pins: 1 SS (in), 2 IN (power), 3 GND (power), 4 OUT (power), 5 BIAS (in), 6 TAB (power)

## LP38858SX-1.2
designator U?
1.5A Fast-Response High-Accuracy LDO Linear Regulator with Soft-Start, 5-pin TO-263; PartNumber: LP38858SX-1.2; Manufacturer: National Semiconductor; PackageTopMarking: NSUZXYTTE#*LP38858S*-1.2; PowerWise: Y; CompType: LDO IC; DatasheetVersion: Nov-2006; PackageVersion: revD, Apr-2005; PackageReference: TS5B; PackageDescription: TO-263, Molded, .400 x .390 x .180in, 5 Lead, .067in Pitch, Surface Mount; RoHS: N; PinCount: 5; High-Reliability: Y; Code_JEDEC: MO-169-AB; ComponentLink1Description: Manufacturer URL; ComponentLink1URL: http://www.national.com/; ComponentLink2Description: LP38858 Datasheet; ComponentLink2URL: http://www.national.com/ds/LP/LP38858.pdf; ComponentLink3Description: LP38858 Web Page; ComponentLink3URL: http://www.national.com/pf/LP/LP38858.html; ComponentLink4Description: TS5B Package Page; ComponentLink4URL: http://www.national.com/packaging/folders/ts5b.html
footprint TS5B_N (D2-PAK, 6-Leads, Body 8.6x10.2mm, Pitch 1.7mm, Lead Span 14.1mm, IPC Medium Density)
footprint TS5B_L (D2-PAK, 6-Leads, Body 8.6x10.2mm, Pitch 1.7mm, Lead Span 14.1mm, IPC High Density)
footprint TS5B_M (D2-PAK, 6-Leads, Body 8.6x10.2mm, Pitch 1.7mm, Lead Span 14.1mm, IPC Low Density)
pins: 1 SS (in), 2 IN (power), 3 GND (power), 4 OUT (power), 5 BIAS (in), 6 TAB (power)

## LP38858SX-1.2/NOPB
designator U?
1.5A Fast-Response High-Accuracy LDO Linear Regulator with Soft-Start, 5-pin TO-263, Pb-Free; PartNumber: LP38858SX-1.2/NOPB; Manufacturer: National Semiconductor; PackageTopMarking: NSUZXYTTE#*LP38858S*-1.2; PowerWise: Y; CompType: LDO IC; DatasheetVersion: Nov-2006; PackageVersion: revD, Apr-2005; PackageReference: TS5B; PackageDescription: TO-263, Molded, .400 x .390 x .180in, 5 Lead, .067in Pitch, Surface Mount; RoHS: Y; PinCount: 5; High-Reliability: Y; Code_JEDEC: MO-169-AB; ComponentLink1Description: Manufacturer URL; ComponentLink1URL: http://www.national.com/; ComponentLink2Description: LP38858 Datasheet; ComponentLink2URL: http://www.national.com/ds/LP/LP38858.pdf; ComponentLink3Description: LP38858 Web Page; ComponentLink3URL: http://www.national.com/pf/LP/LP38858.html; ComponentLink4Description: TS5B Package Page; ComponentLink4URL: http://www.national.com/packaging/folders/ts5b.html
footprint TS5B_N (D2-PAK, 6-Leads, Body 8.6x10.2mm, Pitch 1.7mm, Lead Span 14.1mm, IPC Medium Density)
footprint TS5B_L (D2-PAK, 6-Leads, Body 8.6x10.2mm, Pitch 1.7mm, Lead Span 14.1mm, IPC High Density)
footprint TS5B_M (D2-PAK, 6-Leads, Body 8.6x10.2mm, Pitch 1.7mm, Lead Span 14.1mm, IPC Low Density)
pins: 1 SS (in), 2 IN (power), 3 GND (power), 4 OUT (power), 5 BIAS (in), 6 TAB (power)

## LP38858T-0.8
designator U?
1.5A Fast-Response High-Accuracy LDO Linear Regulator with Soft-Start, 5-pin TO-220; PartNumber: LP38858T-0.8; Manufacturer: National Semiconductor; PackageTopMarking: NSUZXYTTE#*LP38858T*-0.8; PowerWise: Y; CompType: LDO IC; DatasheetVersion: Nov-2006; PackageVersion: revA, Oct-1989; PackageReference: T05D; PackageDescription: TO-220, Molded, Stagger Bend, 5 Lead; RoHS: N; PinCount: 5; High-Reliability: Y; ComponentLink1Description: Manufacturer URL; ComponentLink1URL: http://www.national.com/; ComponentLink2Description: LP38858 Datasheet; ComponentLink2URL: http://www.national.com/ds/LP/LP38858.pdf; ComponentLink3Description: LP38858 Web Page; ComponentLink3URL: http://www.national.com/pf/LP/LP38858.html; ComponentLink4Description: T05D Package Page; ComponentLink4URL: http://www.national.com/packaging/folders/t05d.html
footprint T05D (TO, Thru-Hole, Vertical, Heatsink Mounted; 5 Bent Staggered Leads; Body 10.3x8.6x4.6mm, Pitch 1.7 mm)
pins: 1 SS (in), 2 IN (power), 3 GND (power), 4 OUT (power), 5 BIAS (in)

## LP38858T-0.8/NOPB
designator U?
1.5A Fast-Response High-Accuracy LDO Linear Regulator with Soft-Start, 5-pin TO-220, Pb-Free; PartNumber: LP38858T-0.8/NOPB; Manufacturer: National Semiconductor; PackageTopMarking: NSUZXYTTE#*LP38858T*-0.8; PowerWise: Y; CompType: LDO IC; DatasheetVersion: Nov-2006; PackageVersion: revA, Oct-1989; PackageReference: T05D; PackageDescription: TO-220, Molded, Stagger Bend, 5 Lead; RoHS: Y; PinCount: 5; High-Reliability: Y; ComponentLink1Description: Manufacturer URL; ComponentLink1URL: http://www.national.com/; ComponentLink2Description: LP38858 Datasheet; ComponentLink2URL: http://www.national.com/ds/LP/LP38858.pdf; ComponentLink3Description: LP38858 Web Page; ComponentLink3URL: http://www.national.com/pf/LP/LP38858.html; ComponentLink4Description: T05D Package Page; ComponentLink4URL: http://www.national.com/packaging/folders/t05d.html
footprint T05D (TO, Thru-Hole, Vertical, Heatsink Mounted; 5 Bent Staggered Leads; Body 10.3x8.6x4.6mm, Pitch 1.7 mm)
pins: 1 SS (in), 2 IN (power), 3 GND (power), 4 OUT (power), 5 BIAS (in)

## LP38858T-1.2
designator U?
1.5A Fast-Response High-Accuracy LDO Linear Regulator with Soft-Start, 5-pin TO-220; PartNumber: LP38858T-1.2; Manufacturer: National Semiconductor; PackageTopMarking: NSUZXYTTE#*LP38858T*-1.2; PowerWise: Y; CompType: LDO IC; DatasheetVersion: Nov-2006; PackageVersion: revA, Oct-1989; PackageReference: T05D; PackageDescription: TO-220, Molded, Stagger Bend, 5 Lead; RoHS: N; PinCount: 5; High-Reliability: Y; ComponentLink1Description: Manufacturer URL; ComponentLink1URL: http://www.national.com/; ComponentLink2Description: LP38858 Datasheet; ComponentLink2URL: http://www.national.com/ds/LP/LP38858.pdf; ComponentLink3Description: LP38858 Web Page; ComponentLink3URL: http://www.national.com/pf/LP/LP38858.html; ComponentLink4Description: T05D Package Page; ComponentLink4URL: http://www.national.com/packaging/folders/t05d.html
footprint T05D (TO, Thru-Hole, Vertical, Heatsink Mounted; 5 Bent Staggered Leads; Body 10.3x8.6x4.6mm, Pitch 1.7 mm)
pins: 1 SS (in), 2 IN (power), 3 GND (power), 4 OUT (power), 5 BIAS (in)

## LP38858T-1.2/NOPB
designator U?
1.5A Fast-Response High-Accuracy LDO Linear Regulator with Soft-Start, 5-pin TO-220, Pb-Free; PartNumber: LP38858T-1.2/NOPB; Manufacturer: National Semiconductor; PackageTopMarking: NSUZXYTTE#*LP38858T*-1.2; PowerWise: Y; CompType: LDO IC; DatasheetVersion: Nov-2006; PackageVersion: revA, Oct-1989; PackageReference: T05D; PackageDescription: TO-220, Molded, Stagger Bend, 5 Lead; RoHS: Y; PinCount: 5; High-Reliability: Y; ComponentLink1Description: Manufacturer URL; ComponentLink1URL: http://www.national.com/; ComponentLink2Description: LP38858 Datasheet; ComponentLink2URL: http://www.national.com/ds/LP/LP38858.pdf; ComponentLink3Description: LP38858 Web Page; ComponentLink3URL: http://www.national.com/pf/LP/LP38858.html; ComponentLink4Description: T05D Package Page; ComponentLink4URL: http://www.national.com/packaging/folders/t05d.html
footprint T05D (TO, Thru-Hole, Vertical, Heatsink Mounted; 5 Bent Staggered Leads; Body 10.3x8.6x4.6mm, Pitch 1.7 mm)
pins: 1 SS (in), 2 IN (power), 3 GND (power), 4 OUT (power), 5 BIAS (in)

## LP38859S-0.8
designator U?
3A Fast-Response High-Accuracy LDO Linear Regulator with Soft-Start, 5-pin TO-263; PartNumber: LP38859S-0.8; Manufacturer: National Semiconductor; PackageTopMarking: NSUZXYTTE#*LP38859S*-0.8; PowerWise: Y; CompType: LDO IC; DatasheetVersion: Nov-2006; PackageVersion: revD, Apr-2005; PackageReference: TS5B; PackageDescription: TO-263, Molded, .400 x .390 x .180in, 5 Lead, .067in Pitch, Surface Mount; RoHS: N; PinCount: 5; High-Reliability: Y; Code_JEDEC: MO-169-AB; ComponentLink1Description: Manufacturer URL; ComponentLink1URL: http://www.national.com/; ComponentLink2Description: LP38859 Datasheet; ComponentLink2URL: http://www.national.com/ds/LP/LP38859.pdf; ComponentLink3Description: LP38859 Web Page; ComponentLink3URL: http://www.national.com/pf/LP/LP38859.html; ComponentLink4Description: TS5B Package Page; ComponentLink4URL: http://www.national.com/packaging/folders/ts5b.html
footprint TS5B_N (D2-PAK, 6-Leads, Body 8.6x10.2mm, Pitch 1.7mm, Lead Span 14.1mm, IPC Medium Density)
footprint TS5B_L (D2-PAK, 6-Leads, Body 8.6x10.2mm, Pitch 1.7mm, Lead Span 14.1mm, IPC High Density)
footprint TS5B_M (D2-PAK, 6-Leads, Body 8.6x10.2mm, Pitch 1.7mm, Lead Span 14.1mm, IPC Low Density)
pins: 1 SS (in), 2 IN (power), 3 GND (power), 4 OUT (power), 5 BIAS (in), 6 TAB (power)

## LP38859S-0.8/NOPB
designator U?
3A Fast-Response High-Accuracy LDO Linear Regulator with Soft-Start, 5-pin TO-263, Pb-Free; PartNumber: LP38859S-0.8/NOPB; Manufacturer: National Semiconductor; PackageTopMarking: NSUZXYTTE#*LP38859S*-0.8; PowerWise: Y; CompType: LDO IC; DatasheetVersion: Nov-2006; PackageVersion: revD, Apr-2005; PackageReference: TS5B; PackageDescription: TO-263, Molded, .400 x .390 x .180in, 5 Lead, .067in Pitch, Surface Mount; RoHS: Y; PinCount: 5; High-Reliability: Y; Code_JEDEC: MO-169-AB; ComponentLink1Description: Manufacturer URL; ComponentLink1URL: http://www.national.com/; ComponentLink2Description: LP38859 Datasheet; ComponentLink2URL: http://www.national.com/ds/LP/LP38859.pdf; ComponentLink3Description: LP38859 Web Page; ComponentLink3URL: http://www.national.com/pf/LP/LP38859.html; ComponentLink4Description: TS5B Package Page; ComponentLink4URL: http://www.national.com/packaging/folders/ts5b.html
footprint TS5B_N (D2-PAK, 6-Leads, Body 8.6x10.2mm, Pitch 1.7mm, Lead Span 14.1mm, IPC Medium Density)
footprint TS5B_L (D2-PAK, 6-Leads, Body 8.6x10.2mm, Pitch 1.7mm, Lead Span 14.1mm, IPC High Density)
footprint TS5B_M (D2-PAK, 6-Leads, Body 8.6x10.2mm, Pitch 1.7mm, Lead Span 14.1mm, IPC Low Density)
pins: 1 SS (in), 2 IN (power), 3 GND (power), 4 OUT (power), 5 BIAS (in), 6 TAB (power)

## LP38859S-1.2
designator U?
3A Fast-Response High-Accuracy LDO Linear Regulator with Soft-Start, 5-pin TO-263; PartNumber: LP38859S-1.2; Manufacturer: National Semiconductor; PackageTopMarking: NSUZXYTTE#*LP38859S*-1.2; PowerWise: Y; CompType: LDO IC; DatasheetVersion: Nov-2006; PackageVersion: revD, Apr-2005; PackageReference: TS5B; PackageDescription: TO-263, Molded, .400 x .390 x .180in, 5 Lead, .067in Pitch, Surface Mount; RoHS: N; PinCount: 5; High-Reliability: Y; Code_JEDEC: MO-169-AB; ComponentLink1Description: Manufacturer URL; ComponentLink1URL: http://www.national.com/; ComponentLink2Description: LP38859 Datasheet; ComponentLink2URL: http://www.national.com/ds/LP/LP38859.pdf; ComponentLink3Description: LP38859 Web Page; ComponentLink3URL: http://www.national.com/pf/LP/LP38859.html; ComponentLink4Description: TS5B Package Page; ComponentLink4URL: http://www.national.com/packaging/folders/ts5b.html
footprint TS5B_N (D2-PAK, 6-Leads, Body 8.6x10.2mm, Pitch 1.7mm, Lead Span 14.1mm, IPC Medium Density)
footprint TS5B_L (D2-PAK, 6-Leads, Body 8.6x10.2mm, Pitch 1.7mm, Lead Span 14.1mm, IPC High Density)
footprint TS5B_M (D2-PAK, 6-Leads, Body 8.6x10.2mm, Pitch 1.7mm, Lead Span 14.1mm, IPC Low Density)
pins: 1 SS (in), 2 IN (power), 3 GND (power), 4 OUT (power), 5 BIAS (in), 6 TAB (power)

## LP38859S-1.2/NOPB
designator U?
3A Fast-Response High-Accuracy LDO Linear Regulator with Soft-Start, 5-pin TO-263, Pb-Free; PartNumber: LP38859S-1.2/NOPB; Manufacturer: National Semiconductor; PackageTopMarking: NSUZXYTTE#*LP38859S*-1.2; PowerWise: Y; CompType: LDO IC; DatasheetVersion: Nov-2006; PackageVersion: revD, Apr-2005; PackageReference: TS5B; PackageDescription: TO-263, Molded, .400 x .390 x .180in, 5 Lead, .067in Pitch, Surface Mount; RoHS: Y; PinCount: 5; High-Reliability: Y; Code_JEDEC: MO-169-AB; ComponentLink1Description: Manufacturer URL; ComponentLink1URL: http://www.national.com/; ComponentLink2Description: LP38859 Datasheet; ComponentLink2URL: http://www.national.com/ds/LP/LP38859.pdf; ComponentLink3Description: LP38859 Web Page; ComponentLink3URL: http://www.national.com/pf/LP/LP38859.html; ComponentLink4Description: TS5B Package Page; ComponentLink4URL: http://www.national.com/packaging/folders/ts5b.html
footprint TS5B_N (D2-PAK, 6-Leads, Body 8.6x10.2mm, Pitch 1.7mm, Lead Span 14.1mm, IPC Medium Density)
footprint TS5B_L (D2-PAK, 6-Leads, Body 8.6x10.2mm, Pitch 1.7mm, Lead Span 14.1mm, IPC High Density)
footprint TS5B_M (D2-PAK, 6-Leads, Body 8.6x10.2mm, Pitch 1.7mm, Lead Span 14.1mm, IPC Low Density)
pins: 1 SS (in), 2 IN (power), 3 GND (power), 4 OUT (power), 5 BIAS (in), 6 TAB (power)

## LP38859SX-0.8
designator U?
3A Fast-Response High-Accuracy LDO Linear Regulator with Soft-Start, 5-pin TO-263; PartNumber: LP38859SX-0.8; Manufacturer: National Semiconductor; PackageTopMarking: NSUZXYTTE#*LP38859S*-0.8; PowerWise: Y; CompType: LDO IC; DatasheetVersion: Nov-2006; PackageVersion: revD, Apr-2005; PackageReference: TS5B; PackageDescription: TO-263, Molded, .400 x .390 x .180in, 5 Lead, .067in Pitch, Surface Mount; RoHS: N; PinCount: 5; High-Reliability: Y; Code_JEDEC: MO-169-AB; ComponentLink1Description: Manufacturer URL; ComponentLink1URL: http://www.national.com/; ComponentLink2Description: LP38859 Datasheet; ComponentLink2URL: http://www.national.com/ds/LP/LP38859.pdf; ComponentLink3Description: LP38859 Web Page; ComponentLink3URL: http://www.national.com/pf/LP/LP38859.html; ComponentLink4Description: TS5B Package Page; ComponentLink4URL: http://www.national.com/packaging/folders/ts5b.html
footprint TS5B_N (D2-PAK, 6-Leads, Body 8.6x10.2mm, Pitch 1.7mm, Lead Span 14.1mm, IPC Medium Density)
footprint TS5B_L (D2-PAK, 6-Leads, Body 8.6x10.2mm, Pitch 1.7mm, Lead Span 14.1mm, IPC High Density)
footprint TS5B_M (D2-PAK, 6-Leads, Body 8.6x10.2mm, Pitch 1.7mm, Lead Span 14.1mm, IPC Low Density)
pins: 1 SS (in), 2 IN (power), 3 GND (power), 4 OUT (power), 5 BIAS (in), 6 TAB (power)